# Altium footprint library Light Jacket.PcbLib: 5 footprints
Each footprint in its own frame and in the unit in brackets; x right, y up, seen from the top. Pads: shape width x height; smd on the part's side, far side on the other; paste and mask are expansions set on the pad; w line width, h text height; cw(c..) or ccw(c..) is an arc to the next point about the centre after c.
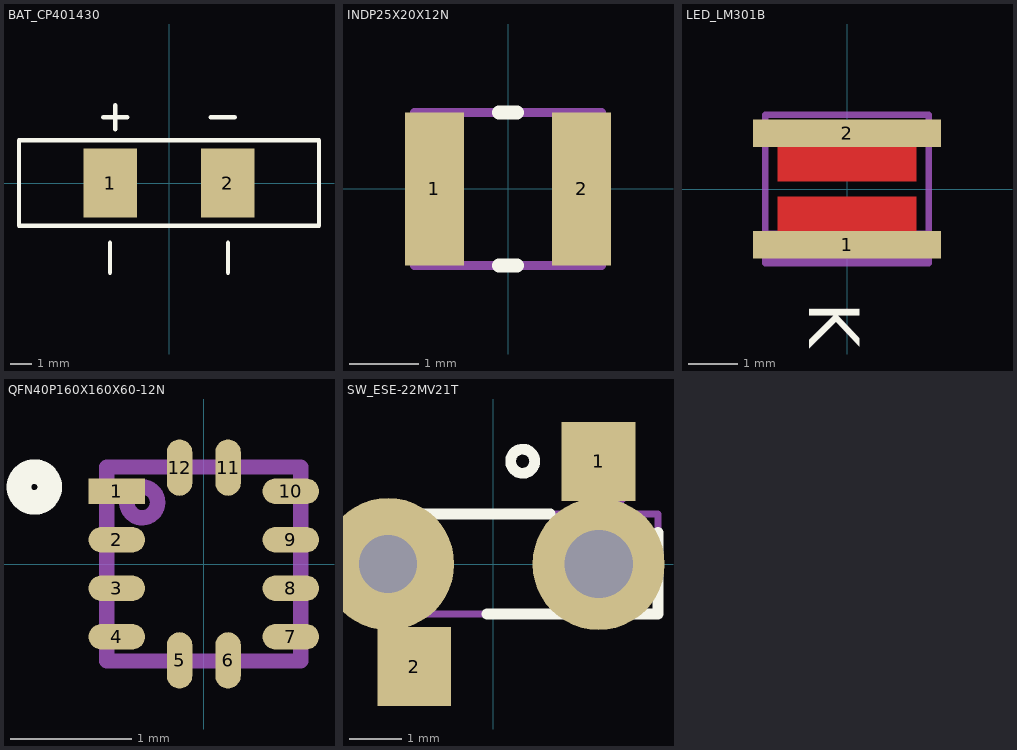
[diagram p0: the footprints below, top view; thin cyan lines are the x and y axes]

## BAT_CP401430 [mm]
height 30
pads (2):
  rect 2.5x3.2 smd: 1(-2.75,0) 2(2.75,0)
Top Overlay:
  lines w0.203: -3.069,3.069 -1.953,3.069 ; -2.75,-4.185 -2.75,-2.79 ; -2.511,2.511 -2.511,3.627 ; 1.953,3.069 3.069,3.069 ; 2.75,-4.185 2.75,-2.79 ; -7,-2 -7,2 7,2 7,-2 -7,-2
Mechanical 1:
  text "'.Designator'" at 0,0 h1.52
Mechanical 15:
  lines w0.127: -3.069,3.069 -1.953,3.069 ; -2.511,2.511 -2.511,3.627 ; 1.953,3.069 3.069,3.069 ; -7,-2 7,-2 7,2 -7,2 -7,-2
3D body: height 30, standoff 0.76, extent -7,-2 7,2

## INDP25X20X12N [mm] "Chip Inductor, 2-Leads, Body 2.50x2.00mm, IPC Medium Density"
height 1.2
pads (2):
  rect 0.85x2.2 smd: 1(-1.06,0) 2(1.06,0)
Top Overlay:
  lines w0.203: -0.127,-1.1 0.127,-1.1 ; -0.127,1.1 0.127,1.1
Mechanical 1:
  text "'.Designator'" at -0.457,-0.381 h1.52
Mechanical 15:
  lines w0.127: -1.35,-1.1 -1.35,1.1 1.35,1.1 1.35,-1.1 -1.35,-1.1
3D body "INDC2520X12N.step": height 1.2, standoff 0, extent -1.35,-1.1 1.35,1.1

## LED_LM301B [mm]
height 0.75
pads (2):
  rect 3.8x0.55 smd: 1(0,-1.125) 2(0,1.125)
Top Layer:
  region: 1.4,-0.15 -1.4,-0.15 -1.4,-1.125 1.4,-1.125
  rectangle: -1.4,0.15 1.4,1.125
Top Overlay:
  text "K" at -0.762,-2.286 h1.02
Mechanical 1:
  text ".Designator" at 0,0 h1.52
Mechanical 15:
  rectangle: -1.674,-1.5 1.65,-0.837
  lines w0.127: -1.65,-1.5 -1.65,1.5 1.65,1.5 1.65,-1.5 -1.65,-1.5
3D body: height 0.75, standoff 0, extent -1.49,-1.65 1.5,1.65

## QFN40P160X160X60-12N [mm]
height 0.6
pads (12):
  rect 0.465x0.21 smd mask+0.076: 1(-0.717,0.6)
  oval 0.465x0.21 smd mask+0.076: 2(-0.717,0.2) 3(-0.717,-0.2) 4(-0.717,-0.6) 7(0.718,-0.6) 8(0.718,-0.2) 9(0.718,0.2) 10(0.718,0.6)
  oval 0.21x0.465 smd mask+0.076: 5(-0.2,-0.795) 6(0.2,-0.795) 11(0.2,0.795) 12(-0.2,0.795)
Top Overlay:
  circle w0.203: c-1.397,0.635 r0.127
Mechanical 1:
  text ".Designator" at 0,0.04 h1.52
Mechanical 15:
  circle w0.127: c-0.508,0.508 r0.127
  lines w0.127: -0.8,-0.8 -0.8,0.8 0.8,0.8 0.8,-0.8 -0.8,-0.8
3D body "QFN40P160X160X60-12N.step": height 0.6, standoff 0, extent -0.86,-0.86 0.86,0.86

## SW_ESE-22MV21T [mm]
height 6.3
pads (4):
  round 0 hole 1.1 unplated: 0(-2,0)
  round 0 hole 1.3 unplated: 0(2,0)
  rect 1.4x1.5 smd: 1(2,1.95) 2(-1.5,-1.95)
Top Overlay:
  circle w0.203: c0.558,1.953 r0.229
  lines w0.203: -2.571,0.558 -2.571,0.95 1.079,0.95 ; -0.121,-0.95 3.129,-0.95 3.129,0.6
Mechanical 1:
  text "'.Designator'" at 0,0 h1.52
Mechanical 15:
  circle w0.127: c2.232,1.395 r0.279
  lines w0.127: -2.571,-0.95 -2.571,0.95 3.129,0.95 3.129,-0.95 -2.571,-0.95
3D body "ESE22MV21T.step": height 6.3, standoff -0.8, extent -2.621,-2.2 3.129,2.2